# Altium footprint library DTM1312PA12PBR008.PcbLib: 2 footprints
Each footprint in its own frame and in the unit in brackets; x right, y up, seen from the top. Pads: shape width x height; smd on the part's side, far side on the other; paste and mask are expansions set on the pad; w line width, h text height; cw(c..) or ccw(c..) is an arc to the next point about the centre after c.
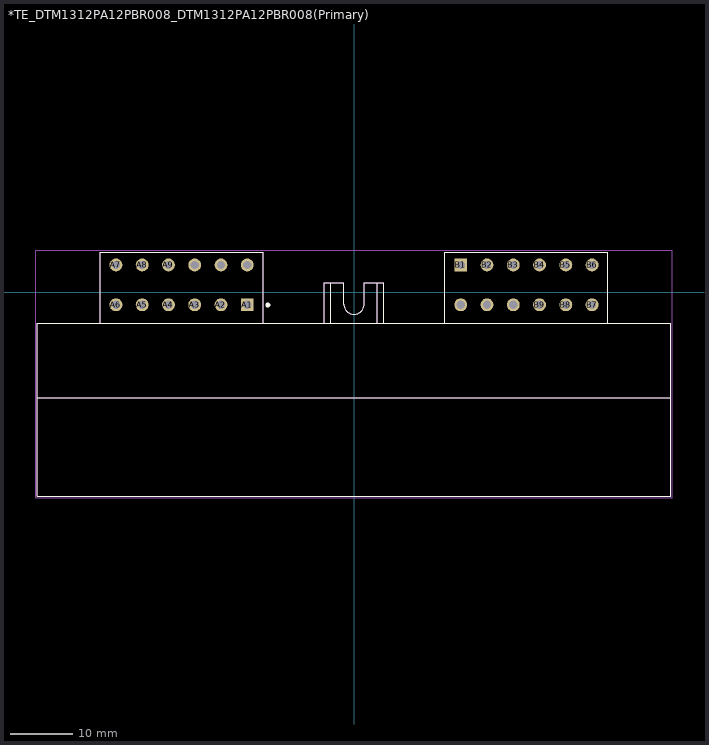
[diagram p0: the footprints below, top view; thin cyan lines are the x and y axes]

## *TE_DTM1312PA12PBR008_DTM1312PA12PBR008(Primary) [mm]
pads (24):
  rect 2.056x2.056 hole 1.294: A1(-17.025,-1.96) B1(17.025,4.39)
  round 2.056 hole 1.294: A2(-21.215,-1.96) A3(-25.405,-1.96) A4(-29.595,-1.96) A5(-33.785,-1.96) A6(-37.975,-1.96) A7(-37.975,4.39) A8(-33.785,4.39) A9(-29.595,4.39) A10(-25.405,4.39) A11(-21.215,4.39) A12(-17.025,4.39) B2(21.215,4.39) B3(25.405,4.39) B4(29.595,4.39) B5(33.785,4.39) B6(37.975,4.39) B7(37.975,-1.96) B8(33.785,-1.96) B9(29.595,-1.96) B10(25.405,-1.96) B11(21.215,-1.96) B12(17.025,-1.96)
Top Overlay:
  circle w0.4: c-13.75,-2 r0.2
  lines w0.127: -50.5,-16.77 -50.5,-32.52 50.5,-32.52 50.5,-16.77 ; -50.5,-16.77 -50.5,-4.91 -40.5,-4.91 ; -50.5,-16.77 50.5,-16.77 ; -40.5,-4.91 -40.5,6.39 -14.5,6.39 -14.5,-4.91 ; -40.5,-4.91 -14.5,-4.91 ; -14.5,-4.91 -4.75,-4.91 ; -4.75,-4.91 -4.75,1.52 -3.68,1.52 ; -4.75,-4.91 -3.68,-4.91 ; -3.68,-4.91 -3.68,1.52 ; -3.68,-4.91 3.68,-4.91 ; -3.68,1.52 -1.625,1.52 -1.625,-1.855 ccw(c0,-1.855) 0,-3.48 ccw(c0,-1.855) 1.625,-1.855 1.625,1.52 3.68,1.52 ; 3.68,-4.91 3.68,1.52 ; 3.68,-4.91 4.75,-4.91 ; 3.68,1.52 4.75,1.52 4.75,-4.91 ; 4.75,-4.91 14.5,-4.91 ; 14.5,-4.91 14.5,6.39 40.5,6.39 40.5,-4.91 ; 14.5,-4.91 40.5,-4.91 ; 40.5,-4.91 50.5,-4.91 50.5,-16.77
Mechanical 4:
  circle w0.4: c-17,-2 r0.2
  circle w0.4: c-17,-2 r0.2
  lines w0.127: -50.5,-32.52 50.5,-32.52 ; -50.5,-32.52 -50.5,-16.77 ; -50.5,-32.52 50.5,-32.52 ; -50.5,-32.52 -50.5,-16.77 ; -50.5,-16.77 -50.5,-4.91 ; -50.5,-16.77 50.5,-16.77 ; -50.5,-16.77 -50.5,-4.91 ; -50.5,-16.77 50.5,-16.77 ; -50.5,-4.91 -40.5,-4.91 ; -50.5,-4.91 -40.5,-4.91 ; -40.5,-4.91 -40.5,6.39 ; -40.5,-4.91 -14.5,-4.91 ; -40.5,-4.91 -40.5,6.39 ; -40.5,-4.91 -14.5,-4.91 ; -40.5,6.39 -14.5,6.39 ; -40.5,6.39 -14.5,6.39 ; -14.5,-4.91 -14.5,6.39 ; -14.5,-4.91 -4.75,-4.91 ; -14.5,-4.91 -14.5,6.39 ; -14.5,-4.91 -4.75,-4.91 ; -4.75,-4.91 -4.75,1.52 ; -4.75,-4.91 -3.68,-4.91 ; -4.75,-4.91 -4.75,1.52 ; -4.75,-4.91 -3.68,-4.91 ; -4.75,1.52 -3.68,1.52 ; -4.75,1.52 -3.68,1.52 ; -3.68,-4.91 -3.68,1.52 ; -3.68,-4.91 3.68,-4.91 ; -3.68,-4.91 -3.68,1.52 ; -3.68,-4.91 3.68,-4.91 ; -3.68,1.52 -1.625,1.52 ; -3.68,1.52 -1.625,1.52 ; -1.625,-1.855 ccw(c0,-1.855) 0,-3.48 ; -1.625,-1.855 ccw(c0,-1.855) 0,-3.48 ; -1.625,-1.855 -1.625,1.52 ; -1.625,-1.855 -1.625,1.52 ; 0,-3.48 ccw(c0,-1.855) 1.625,-1.855 ; 0,-3.48 ccw(c0,-1.855) 1.625,-1.855 ; 1.625,-1.855 1.625,1.52 ; 1.625,-1.855 1.625,1.52 ; 1.625,1.52 3.68,1.52 ; 1.625,1.52 3.68,1.52 ; 3.68,-4.91 3.68,1.52 ; 3.68,-4.91 4.75,-4.91 ; 3.68,-4.91 3.68,1.52 ; 3.68,-4.91 4.75,-4.91 ; 3.68,1.52 4.75,1.52 ; 3.68,1.52 4.75,1.52 ; 4.75,-4.91 4.75,1.52 ; 4.75,-4.91 14.5,-4.91 ; 4.75,-4.91 4.75,1.52 ; 4.75,-4.91 14.5,-4.91 ; 14.5,-4.91 14.5,6.39 ; 14.5,-4.91 40.5,-4.91 ; 14.5,-4.91 14.5,6.39 ; 14.5,-4.91 40.5,-4.91 ; 14.5,6.39 40.5,6.39 ; 14.5,6.39 40.5,6.39 ; 40.5,-4.91 40.5,6.39 ; 40.5,-4.91 50.5,-4.91 ; 40.5,-4.91 40.5,6.39 ; 40.5,-4.91 50.5,-4.91 ; 50.5,-32.52 50.5,-16.77 ; 50.5,-32.52 50.5,-16.77 ; 50.5,-16.77 50.5,-4.91 ; 50.5,-16.77 50.5,-4.91
Mechanical 16:
  lines w0.05: -50.75,-32.75 -50.75,6.75 50.75,6.75 50.75,-32.75 -50.75,-32.75

## PCBComponent_1 [mm]